# Altium footprint library sim800.PcbLib: 20 footprints (part 1 of 2)
Each footprint in its own frame and in the unit in brackets; x right, y up, seen from the top. Pads: shape width x height; smd on the part's side, far side on the other; paste and mask are expansions set on the pad; w line width, h text height; cw(c..) or ccw(c..) is an arc to the next point about the centre after c.
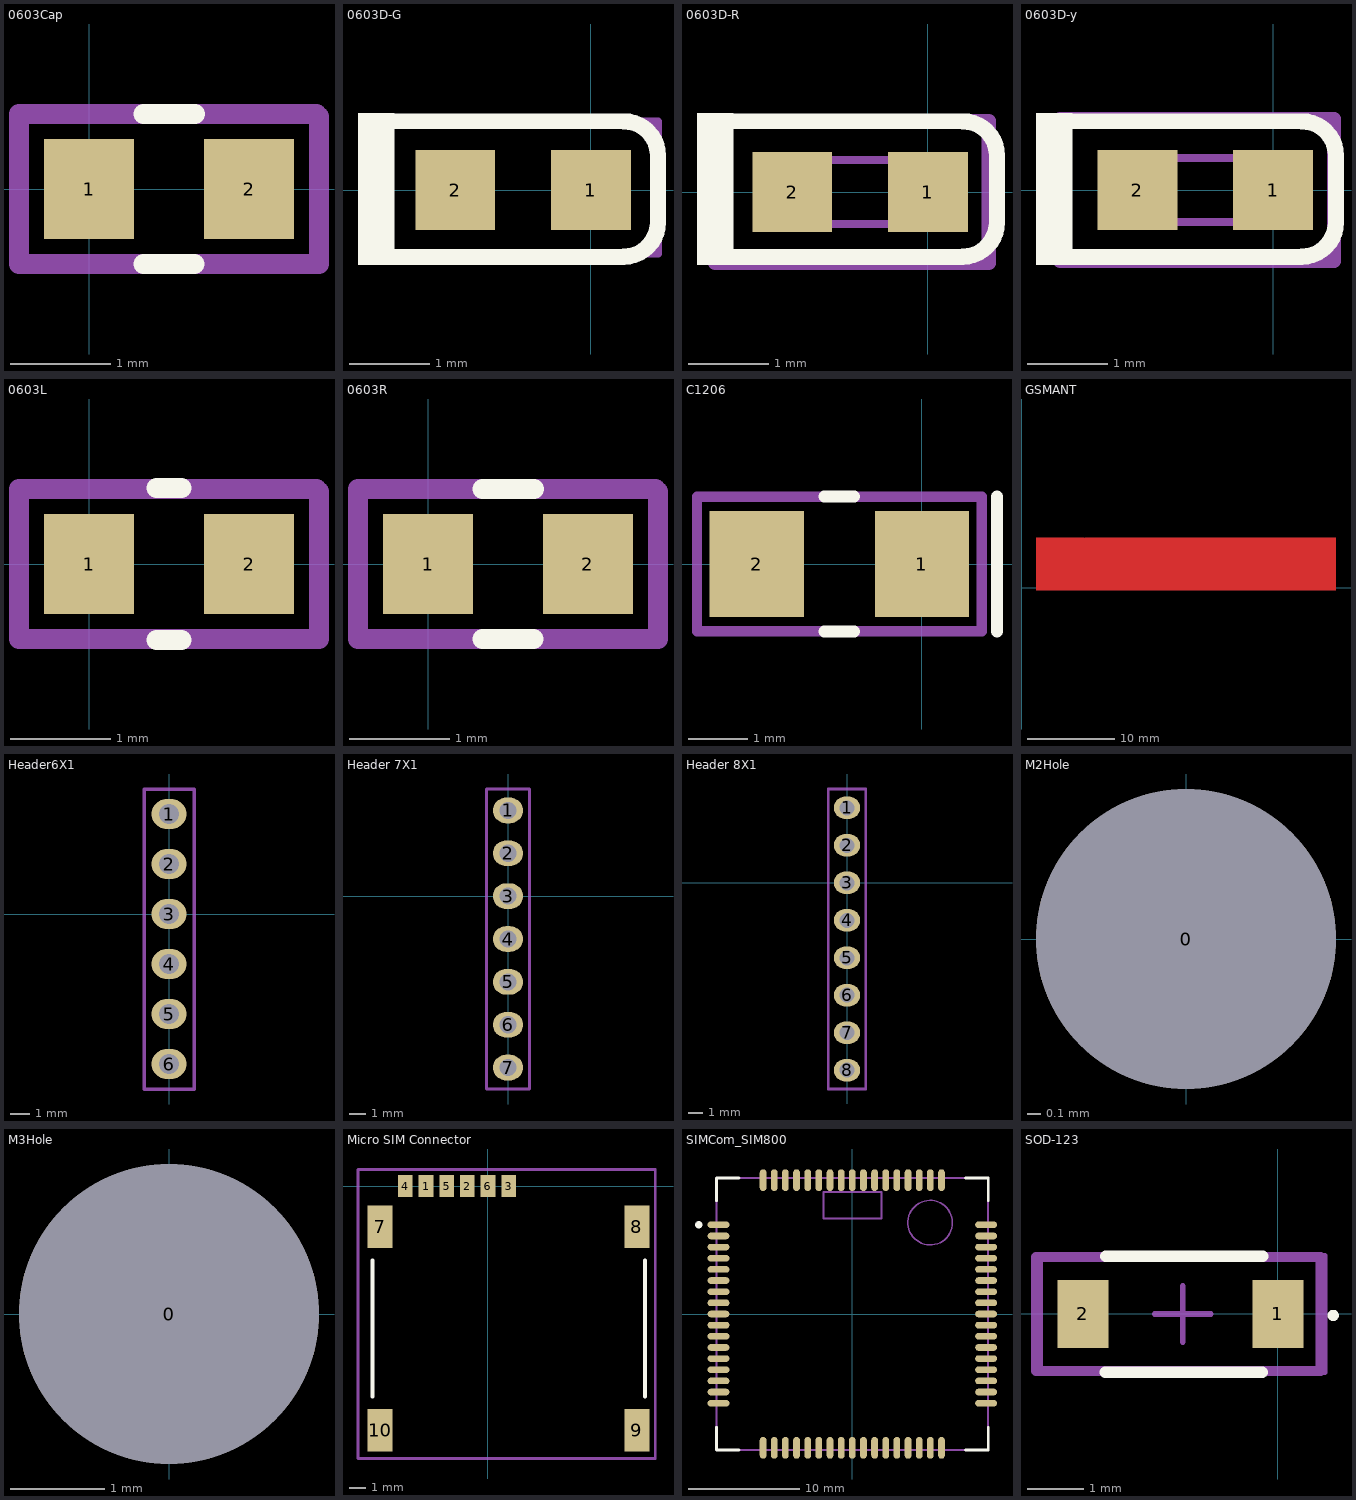
[diagram p0: the footprints below, top view; thin cyan lines are the x and y axes]

## 0603Cap [mm] "Chip Capacitor, Body 1.6x0.8mm, Height 1.0mm, IPC Medium Density"
height 1
pads (2):
  rect 0.9x1 smd: 1(0,0) 2(1.6,0)
Top Overlay:
  lines w0.2: 0.544,-0.75 1.056,-0.75 ; 0.546,0.75 1.059,0.75
Top Assembly:
  lines w0.2: -0.7,-0.75 -0.7,0.75 2.275,0.75 2.3,0.725 2.3,-0.75 -0.7,-0.75
  text "'.Designator'" at -0.508,-0.254 h0.6
Mechanical 14:
  lines w0.05: -0.7,-0.75 -0.7,0.75 2.3,0.75 2.3,-0.75 -0.7,-0.75
3D body "cap0603.step": height 0.77, standoff -0.03, extent 0,-0.4 1.6,0.4

## 0603D-G [mm] "LED, SMT, Body 1.6 x 0.8 mm, 0.25mm Thickness"
height 0.25
pads (2):
  rect 1x1 smd paste+0 mask+0: 1(0,0) 2(-1.7,0)
Top Overlay:
  rectangle: -2.92,-0.94 -2.463,0.965
  lines w0.203: -2.793,0.864 0.411,0.86 cw(c0.411,0.431) 0.84,0.431 ; -2.527,-0.838 0.381,-0.838 ; 0.409,-0.835 ccw(c0.409,-0.406) 0.838,-0.406 ; 0.839,-0.381 0.839,0.431
Top Assembly:
  lines w0.1: -2.565,-0.799 -2.565,0.861 0.838,0.861 0.838,-0.799 -2.565,-0.799
  text "'.Designator'" at -2.708,-0.346 h0.6
3D body: height 0.25, standoff 0.1, extent -1.438,-0.4 -0.238,0.4
3D body: height 0.2, standoff 0.15, extent -1.092,-0.254 -0.584,0.254

## 0603D-R [mm] "LED, SMT, Body 1.6 x 0.8 mm, 0.25mm Thickness"
height 0.25
pads (2):
  rect 1x1 smd paste+0 mask+0: 1(0,0) 2(-1.7,0)
Top Overlay:
  rectangle: -2.895,-0.914 -2.438,0.991
  lines w0.203: -2.768,0.889 0.437,0.886 cw(c0.436,0.457) 0.865,0.457 ; -2.502,-0.813 0.406,-0.813 ; 0.435,-0.81 ccw(c0.435,-0.381) 0.864,-0.381 ; 0.864,-0.356 0.865,0.456
Top 3D Body:
  lines w0.1: -1.65,-0.4 -0.05,-0.4 -0.05,0.4 -1.65,0.4 -1.65,-0.4
Top Assembly:
  lines w0.178: -2.667,-0.889 -2.667,0.889 0.762,0.889 0.762,-0.889 -2.667,-0.889
  text "'.Designator'" at -2.54,-0.381 h0.6
3D body: height 0.25, standoff 0.1, extent -1.45,-0.4 -0.25,0.4
3D body: height 0.2, standoff 0.15, extent -1.104,-0.254 -0.596,0.254

## 0603D-y [mm] "LED, SMT, Body 1.6 x 0.8 mm, 0.25mm Thickness"
height 0.25
pads (2):
  rect 1x1 smd paste+0 mask+0: 1(0,0) 2(-1.7,0)
Top Overlay:
  rectangle: -2.971,-0.94 -2.514,0.965
  lines w0.203: -2.844,0.864 0.361,0.86 cw(c0.36,0.431) 0.789,0.431 ; -2.578,-0.838 0.33,-0.838 ; 0.359,-0.835 ccw(c0.359,-0.406) 0.787,-0.406 ; 0.788,-0.381 0.789,0.431
Top 3D Body:
  lines w0.1: -1.65,-0.4 -0.05,-0.4 -0.05,0.4 -1.65,0.4 -1.65,-0.4
Top Assembly:
  lines w0.178: -2.667,-0.889 -2.667,0.889 0.762,0.889 0.762,-0.889 -2.667,-0.889
  text "'.Designator'" at -2.54,-0.381 h0.6
3D body: height 0.25, standoff 0.1, extent -1.514,-0.4 -0.314,0.4

## 0603L [mm] "Bead 0603L"
height 1
pads (2):
  rect 0.9x1 smd: 1(0,0) 2(1.6,0)
Top Overlay:
  lines w0.2: 0.673,-0.762 0.927,-0.762 ; 0.673,0.762 0.927,0.762
Top Assembly:
  lines w0.2: -0.7,-0.75 2.3,-0.75 2.3,0.725 2.275,0.75 -0.7,0.75 -0.7,-0.75
  text "'.Designator'" at -0.47,-0.254 h0.6
Mechanical 14:
  lines w0.05: -0.7,-0.75 2.3,-0.75 2.3,0.75 -0.7,0.75 -0.7,-0.75
3D body "MPZ1608S221ATA00.stp": height 0.75, standoff 0, extent 0,-0.4 1.6,0.4

## 0603R [mm] "Chip Resistor, Body 1.6x0.8mm, IPC Medium Density"
height 0.6
pads (2):
  rect 0.9x1 smd: 1(0,0) 2(1.6,0)
Top Overlay:
  lines w0.2: 0.544,-0.75 1.056,-0.75 ; 0.546,0.75 1.059,0.75
Top Assembly:
  lines w0.2: -0.7,-0.75 2.3,-0.75 2.3,0.725 2.275,0.75 -0.7,0.75 -0.7,-0.75
  text "'.Designator'" at -0.508,-0.254 h0.6
Mechanical 14:
  lines w0.05: -0.7,-0.75 2.3,-0.75 2.3,0.75 -0.7,0.75 -0.7,-0.75
3D body "RESISTOR 0603.step": height 0.49, standoff -0.02, extent 0,-0.43 1.6,0.43

## C1206 [mm] "Cap 1206 tantalum"
pads (2):
  rect 1.6x1.8 smd: 1(0,0) 2(-2.8,0)
Top Overlay:
  lines w0.2: -1.654,-1.143 -1.146,-1.143 ; -1.654,1.143 -1.146,1.143 ; 1.27,-1.143 1.27,1.143
Top Assembly:
  lines w0.178: -3.81,-1.143 1.016,-1.143 1.016,1.143 -1.4,1.143 -3.81,1.143 -3.81,-1.143
  text "'.Designator'" at -3.6,-0.247 h0.6
3D body "User Library-AVX_ACASE.step": height 1.71, standoff 0, extent -3.1,-0.84 0.3,0.84

## GSMANT [mm]
Top Layer:
  region: 7.27,5.588 7.27,-0.3 1.651,-0.3 1.651,5.715 7.149,5.715
  region: 35.941,-0.3 9.27,-0.3 9.27,5.7 9.391,5.715 35.941,5.715 hole: 33.27,4.6 12.27,4.6 12.27,3.8 12.27,0 13.27,0 13.27,3.8 32.27,3.8 32.27,1.6 15.27,1.6 15.27,3.2 14.27,3.2 14.27,0.6 15.27,0.6 15.27,0.6 33.27,0.6 33.27,1 33.27,3.8
  pour cut-out: 7.27,-0.3 7.27,5.7 9.27,5.7 9.27,-0.3
  pour cut-out: 14.27,0.6 14.27,3.2 15.27,3.2 15.27,0.6
  pour cut-out: 15.27,1.6 33.27,1.6 33.27,0.6 15.27,0.6
  pour cut-out: 33.27,4.6 33.27,1 32.27,1 32.27,4.6
  pour cut-out: 33.27,3.8 12.27,3.8 12.27,4.6 33.27,4.6
  pour cut-out: 12.27,0 12.27,4.6 13.27,4.6 13.27,0
  pour cut-out: 11.27,0
  pour cut-out: 11.27,0
  pour cut-out: 11.27,0
Top Solder:
  rectangle: 9.27,-0.3 11.57,2.2
  rectangle: 4.87,-0.3 7.27,2.2

## Header6X1 [mil]
pads (6):
  oval 70x60 hole 40 mask+2: 1(0,200) 2(0,100) 3(0,0) 4(0,-100) 5(0,-200) 6(0,-300)
Top Assembly:
  lines w7: -50,-350 -50,250 50,250 50,-350 -50,-350

## Header 7X1 [mil]
pads (7):
  oval 70x60 hole 40 mask+2: 1(0,200) 2(0,100) 3(0,0) 4(0,-100) 5(0,-200) 6(0,-300) 7(0,-400)
Top Assembly:
  lines w7: -50,-450 50,-450 50,250 -50,250 -50,-450

## Header 8X1 [mil]
pads (8):
  oval 70x60 hole 40 mask+2: 1(0,200) 2(0,100) 3(0,0) 4(0,-100) 5(0,-200) 6(0,-300) 7(0,-400) 8(0,-500)
Top Assembly:
  lines w7: -50,-550 50,-550 50,250 -50,250 -50,-550

## M2Hole [mm]
pads (1):
  round 2.2 hole 2.2 unplated mask+0.102: 0(0,0)

## M3Hole [mm]
pads (1):
  round 3.2 hole 3.2 unplated mask+0.102: 0(0,0)

## Micro SIM Connector [mm]
pads (10):
  rect 0.9x1.35 smd: 1(-3.81,0) 2(-1.27,0) 3(1.27,0) 4(-5.08,0) 5(-2.54,0) 6(0,0)
  rect 1.55x2.6 smd: 7(-6.64,-2.505) 8(9.16,-2.505) 9(9.16,-15.025) 10(-6.64,-15.025)
Top Overlay:
  lines w0.254: -7.112,-12.954 -7.112,-4.572 ; 9.652,-12.954 9.652,-4.572
Top 3D Body:
  lines w0.178: -7.996,-16.764 -7.996,1.016 10.292,1.016 10.292,-16.764 -6.98,-16.764 -7.996,-16.764
  text "'.Designator'" at -3.424,-8.636 h0.89
3D body "User Library-MICRO 1_35 SIM (CD).step": height 1.39, standoff -0.06, extent -6.98,-16.702 9.52,0.508

## SIMCom_SIM800 [mm]
pads (68):
  oval 1.956x0.6 smd: 1(-12,8) 2(-12,7) 3(-12,6) 4(-12,5) 5(-12,4) 6(-12,3) 7(-12,2) 8(-12,1) 9(-12,0) 10(-12,-1) 11(-12,-2) 12(-12,-3) 13(-12,-4) 14(-12,-5) 15(-12,-6) 16(-12,-7) 17(-12,-8) 35(12,-8) 36(12,-7) 37(12,-6) 38(12,-5) 39(12,-4) 40(12,-3) 41(12,-2) 42(12,-1) 43(12,0) 44(12,1) 45(12,2) 46(12,3) 47(12,4) 48(12,5) 49(12,6) 50(12,7) 51(12,8)
  oval 0.6x1.956 smd: 18(-8,-12) 19(-7,-12) 20(-6,-12) 21(-5,-12) 22(-4,-12) 23(-3,-12) 24(-2,-12) 25(-1,-12) 26(0,-12) 27(1,-12) 28(2,-12) 29(3,-12) 30(4,-12) 31(5,-12) 32(6,-12) 33(7,-12) 34(8,-12) 52(8,12) 53(7,12) 54(6,12) 55(5,12) 56(4,12) 57(3,12) 58(2,12) 59(1,12) 60(0,12) 61(-1,12) 62(-2,12) 63(-3,12) 64(-4,12) 65(-5,12) 66(-6,12) 67(-7,12) 68(-8,12)
Top Overlay:
  lines w0.254: -12.192,-10.16 -12.192,-12.192 -10.16,-12.192 ; -12.192,10.16 -12.192,12.192 -10.16,12.192 ; 10.16,-12.192 12.192,-12.192 12.192,-10.16 ; 10.16,12.192 12.192,12.192 12.192,10.16
  lines w0.33: -13.606,8.002 ccw(c-13.767,8.001) -13.606,8.001
Top Assembly:
  circle w0.127: c6.986,8.19 r2
  lines w0.178: -12.192,-12.192 12.192,-12.192 12.192,12.192 -12.192,12.192 -12.192,-12.192 ; -2.564,8.559 2.636,8.559 2.636,10.921 -2.564,10.921 -2.564,8.559
  text "'.Designator'" at -4.191,0 h0.89
3D body "User Library-SIM800.step": height 3, standoff 0, extent -12,-12 12,12

## SOD-123 [mil] "Diode"
height 39.37
pads (2):
  rect 36x48 smd: 1(0,0) 2(-137,0)
Top Overlay:
  circle w3.94: c38.83,-1.01 r1.97
  lines w7.87: -121.29,-41.01 -11.05,-41.01 ; -120.94,40.52 -10.7,40.52
Top Assembly:
  lines w7: -170,-40 30,-40 30,40 -170,40 -170,-40
  text "'.Designator'" at -165,-10 h23.62
Mechanical 15:
  lines w3.94: -86.51,-0.01 -47.14,-0.01 ; -66.82,-19.69 -66.82,19.68 ; -167.09,-41.01 -167.09,40.99 32.83,40.99 32.83,-41.01 -167.09,-41.01
3D body "CircuitWorks-SOD123.step": height 50, standoff 0, extent -140,-31.5 5.67,31.5